# Altium footprint library 2N7000.PcbLib: 1 footprints
Each footprint in its own frame and in the unit in brackets; x right, y up, seen from the top. Pads: shape width x height; smd on the part's side, far side on the other; paste and mask are expansions set on the pad; w line width, h text height; cw(c..) or ccw(c..) is an arc to the next point about the centre after c.
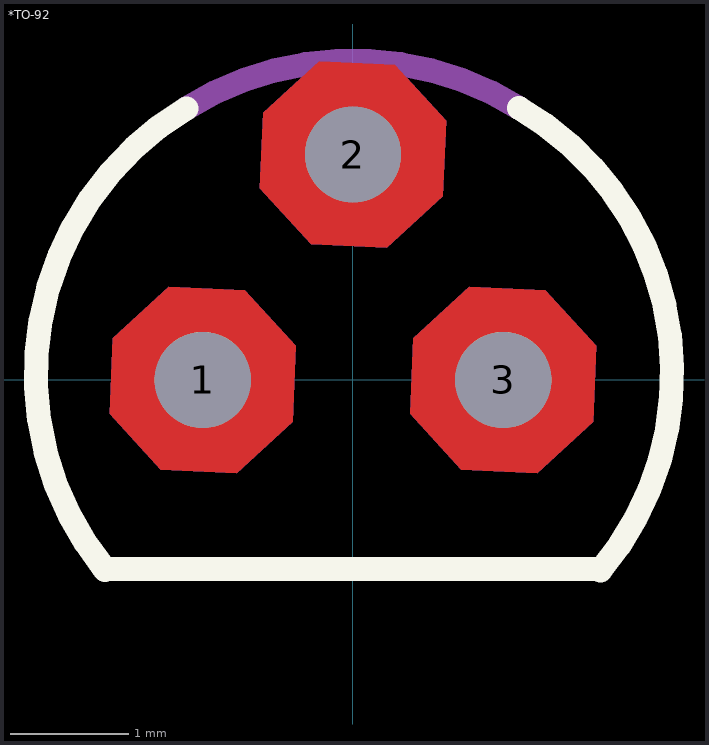
[diagram p0: the footprint, top view; thin cyan lines are the x and y axes]

## *TO-92 [mil]
pads (3):
  round 32 hole 32: 1(-50,0) 2(0,75) 3(50,0)
Top Layer:
  region: -18.99,11.29 -36.05,29.91 -61.29,31.01 -79.91,13.95 -81.01,-11.29 -63.95,-29.91 -38.71,-31.01 -20.09,-13.95
  region: 31.01,86.29 13.95,104.91 -11.29,106.01 -29.91,88.95 -31.01,63.71 -13.95,45.09 11.29,43.99 29.91,61.05
  region: 81.01,11.29 63.95,29.91 38.71,31.01 20.09,13.95 18.99,-11.29 36.05,-29.91 61.29,-31.01 79.91,-13.95
Bottom Layer:
  region: -18.99,11.29 -36.05,29.91 -61.29,31.01 -79.91,13.95 -81.01,-11.29 -63.95,-29.91 -38.71,-31.01 -20.09,-13.95
  region: 31.01,86.29 13.95,104.91 -11.29,106.01 -29.91,88.95 -31.01,63.71 -13.95,45.09 11.29,43.99 29.91,61.05
  region: 81.01,11.29 63.95,29.91 38.71,31.01 20.09,13.95 18.99,-11.29 36.05,-29.91 61.29,-31.01 79.91,-13.95
Top Overlay:
  lines w8: -82.68,-62.99 82.68,-62.99 ; -82.51,-63.2 cw(c-2.23,1.81) -55.43,90.36 ; 55.23,90.48 cw(c4.25,2.18) 82.36,-63.37
Mechanical 4:
  lines w8: -55.29,90.45 cw(c0,1.97) 55.29,90.45 ccw(c0,1.97) -55.29,90.45
Multi-Layer:
  region: -18.99,11.29 -36.05,29.91 -61.29,31.01 -79.91,13.95 -81.01,-11.29 -63.95,-29.91 -38.71,-31.01 -20.09,-13.95
  region: 31.01,86.29 13.95,104.91 -11.29,106.01 -29.91,88.95 -31.01,63.71 -13.95,45.09 11.29,43.99 29.91,61.05
  region: 81.01,11.29 63.95,29.91 38.71,31.01 20.09,13.95 18.99,-11.29 36.05,-29.91 61.29,-31.01 79.91,-13.95